# Altium footprint library BuckConverter.PcbLib: 28 footprints (part 2 of 2)
Each footprint in its own frame and in the unit in brackets; x right, y up, seen from the top. Pads: shape width x height; smd on the part's side, far side on the other; paste and mask are expansions set on the pad; w line width, h text height; cw(c..) or ccw(c..) is an arc to the next point about the centre after c.
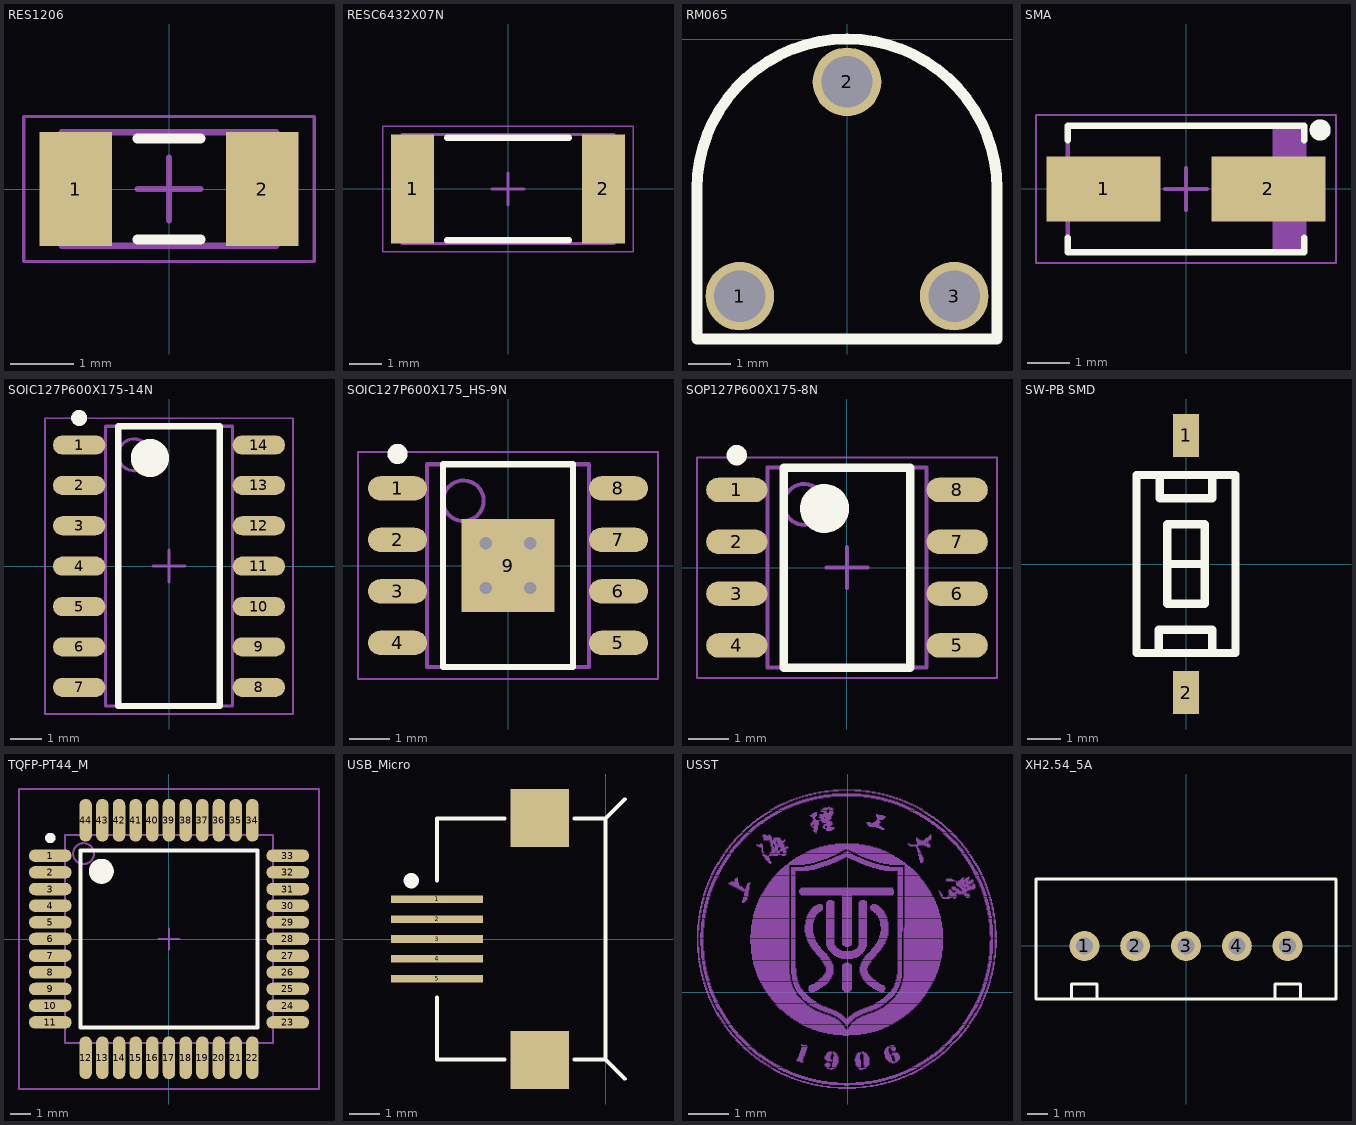
[diagram p1: the footprints below, top view; thin cyan lines are the x and y axes]

## RES1206 [mm]
pads (2):
  rect 1.15x1.8 smd: 1(-1.475,0) 2(1.475,0)
Top Overlay:
  lines w0.152: -0.5,-0.8 0.5,-0.8 ; -0.5,0.8 0.5,0.8
Mechanical 13:
  lines w0.1: -1.7,-0.9 1.7,-0.9 1.7,0.9 -1.7,0.9 -1.7,-0.9
Mechanical 15:
  lines w0.05: -2.3,-1.15 2.3,-1.15 2.3,1.15 -2.3,1.15 -2.3,-1.15
  lines w0.1: -0.5,0 0.5,0 ; 0,-0.5 0,0.5
3D body "RES1206.step": height 0.6, standoff 0, extent -1.6,-0.8 1.6,0.8

## RESC6432X07N [mm]
pads (2):
  rect 1.35x3.4 smd: 1(-2.975,0) 2(2.975,0)
Top Overlay:
  lines w0.2: -1.9,-1.6 1.9,-1.6 ; -1.9,1.6 1.9,1.6
Mechanical 13:
  lines w0.1: -3.3,-1.7 3.3,-1.7 3.3,1.7 -3.3,1.7 -3.3,-1.7
Mechanical 15:
  lines w0.05: -3.9,-1.95 3.9,-1.95 3.9,1.95 -3.9,1.95 -3.9,-1.95
  lines w0.1: -0.5,0 0.5,0 ; 0,-0.5 0,0.5
3D body "RESC6432X07N.step": height 0.7, standoff 0, extent -3.3,-1.7 3.3,1.7

## RM065 [mm]
pads (3):
  round 1.6 hole 1.2: 1(-2.5,-6) 2(0,-1) 3(2.5,-6)
Top Overlay:
  lines w0.254: -3.5,-7 3.25,-7 3.5,-7 3.5,-3.5 ccw(c0,-3.5) -3.5,-3.5 -3.5,-7
3D body "User Library-RM-065.STEP": height 7.7, standoff -3.1, extent -3.25,-7.143 3.25,0.1

## SMA [mm]
pads (2):
  rect 2.7x1.55 smd: 1(-1.95,0) 2(1.95,0)
Top Overlay:
  circle w0.25: c3.175,1.397 r0.125
  lines w0.152: -2.8,-1.151 -2.8,-1.5 2.8,-1.5 2.8,-1.151 ; -2.8,1.151 -2.8,1.5 2.8,1.5 2.8,1.151
Mechanical 13:
  rectangle: 2.047,-1.475 2.8,1.475
  lines w0.1: -2.8,-1.475 2.8,-1.475 2.8,1.475 -2.8,1.475 -2.8,-1.475
Mechanical 15:
  lines w0.05: -3.55,-1.75 3.55,-1.75 3.55,1.75 -3.55,1.75 -3.55,-1.75
  lines w0.1: -0.5,0 0.5,0 ; 0,-0.5 0,0.5
3D body "SMA.step": height 2, standoff -0.03, extent -2.6,-1.3 2.6,1.3

## SOIC127P600X175-14N [mm]
pads (14):
  oval 1.65x0.6 smd: 1(-2.825,3.81) 2(-2.825,2.54) 3(-2.825,1.27) 4(-2.825,0) 5(-2.825,-1.27) 6(-2.825,-2.54) 7(-2.825,-3.81) 8(2.825,-3.81) 9(2.825,-2.54) 10(2.825,-1.27) 11(2.825,0) 12(2.825,1.27) 13(2.825,2.54) 14(2.825,3.81)
Top Overlay:
  circle w0.6: c-0.6,3.4 r0.3
  circle w0.25: c-2.825,4.66 r0.125
  lines w0.2: -1.6,-4.4 1.6,-4.4 1.6,4.4 -1.6,4.4 -1.6,-4.4
Mechanical 13:
  circle w0.1: c-1.1,3.5 r0.5
  lines w0.1: -2,-4.4 2,-4.4 2,4.4 -2,4.4 -2,-4.4
Mechanical 15:
  lines w0.05: -3.9,-4.65 3.9,-4.65 3.9,4.65 -3.9,4.65 -3.9,-4.65
  lines w0.1: -0.5,0 0.5,0 ; 0,-0.5 0,0.5
3D body "SOIC127P600X175-14N.step": height 1.75, standoff 0, extent -3,-4.4 3,4.4

## SOIC127P600X175_HS-9N [mm]
pads (9):
  oval 1.45x0.6 smd: 1(-2.725,1.905) 2(-2.725,0.635) 3(-2.725,-0.635) 4(-2.725,-1.905) 5(2.725,-1.905) 6(2.725,-0.635) 7(2.725,0.635) 8(2.725,1.905)
  rect 2.3x2.3 smd: 9(0,0)
via -0.55,-0.55 diameter 0.5 hole 0.3
via 0.55,-0.55 diameter 0.5 hole 0.3
via -0.55,0.55 diameter 0.5 hole 0.3
via 0.55,0.55 diameter 0.5 hole 0.3
Top Overlay:
  circle w0.25: c-2.725,2.755 r0.125
  lines w0.152: -1.6,-2.5 1.6,-2.5 1.6,2.5 -1.6,2.5 -1.6,-2.5
Mechanical 13:
  circle w0.1: c-1.1,1.6 r0.5
  lines w0.1: -2,-2.5 2,-2.5 2,2.5 -2,2.5 -2,-2.5
Mechanical 15:
  lines w0.05: -3.7,-2.8 3.7,-2.8 3.7,2.8 -3.7,2.8 -3.7,-2.8
  lines w0.1: -0.5,0 0.5,0 ; 0,-0.5 0,0.5
3D body "SOIC127P600X175_HS-9N.step": height 1.75, standoff 0, extent -2.998,-2.5 2.998,2.5

## SOP127P600X175-8N [mm]
pads (8):
  oval 1.5x0.6 smd: 1(-2.7,1.905) 2(-2.7,0.635) 3(-2.7,-0.635) 4(-2.7,-1.905) 5(2.7,-1.905) 6(2.7,-0.635) 7(2.7,0.635) 8(2.7,1.905)
Top Overlay:
  circle w0.25: c-2.7,2.755 r0.125
  circle w0.6: c-0.55,1.45 r0.3
  lines w0.2: -1.55,-2.45 -1.55,2.45 1.55,2.45 1.55,-2.45 -1.55,-2.45
Mechanical 13:
  circle w0.1: c-1.05,1.55 r0.5
  lines w0.1: -1.95,-2.45 -1.95,2.45 1.95,2.45 1.95,-2.45 -1.95,-2.45
Mechanical 15:
  lines w0.05: -3.675,-2.7 -3.675,2.7 3.675,2.7 3.675,-2.7 -3.675,-2.7
  lines w0.1: -0.5,0 0.5,0 ; 0,-0.5 0,0.5
3D body "SOP127P600X175-8N.step": height 1.75, standoff 0, extent -3,-2.45 3,2.45

## SW-PB SMD [mm]
pads (2):
  rect 0.8x1.3 smd: 1(0,3.9) 2(0,-3.9)
Top Overlay:
  lines w0.254: -0.826,-2.7 -0.826,-2 ; -0.8,-2 0.8,-2 0.8,-2.7 ; -0.8,2.7 -0.8,2 0.8,2 0.8,2.7 ; -0.572,0 0.572,0 ; -1.5,-2.7 -1.5,2.7 1.5,2.7 1.5,-2.7 -1.5,-2.7 ; -0.572,-1.206 -0.572,1.206 0.572,1.206 0.572,-1.206 -0.572,-1.206
3D body "User Library-Tact switch 1181_2.step": height 2.5, standoff -0.1, extent -1.8,-4 1.8,4

## TQFP-PT44_M [mm]
pads (44):
  oval 2.05x0.6 smd: 1(-5.7,4) 2(-5.7,3.2) 3(-5.7,2.4) 4(-5.7,1.6) 5(-5.7,0.8) 6(-5.7,0) 7(-5.7,-0.8) 8(-5.7,-1.6) 9(-5.7,-2.4) 10(-5.7,-3.2) 11(-5.7,-4) 23(5.7,-4) 24(5.7,-3.2) 25(5.7,-2.4) 26(5.7,-1.6) 27(5.7,-0.8) 28(5.7,0) 29(5.7,0.8) 30(5.7,1.6) 31(5.7,2.4) 32(5.7,3.2) 33(5.7,4)
  oval 0.6x2.05 smd: 12(-4,-5.7) 13(-3.2,-5.7) 14(-2.4,-5.7) 15(-1.6,-5.7) 16(-0.8,-5.7) 17(0,-5.7) 18(0.8,-5.7) 19(1.6,-5.7) 20(2.4,-5.7) 21(3.2,-5.7) 22(4,-5.7) 34(4,5.7) 35(3.2,5.7) 36(2.4,5.7) 37(1.6,5.7) 38(0.8,5.7) 39(0,5.7) 40(-0.8,5.7) 41(-1.6,5.7) 42(-2.4,5.7) 43(-3.2,5.7) 44(-4,5.7)
Top Overlay:
  circle w0.6: c-3.25,3.25 r0.3
  circle w0.25: c-5.7,4.85 r0.125
  lines w0.2: -4.25,-4.25 4.25,-4.25 4.25,4.25 -4.25,4.25 -4.25,-4.25
Mechanical 13:
  circle w0.1: c-4.1,4.1 r0.5
  lines w0.1: -5,-5 5,-5 5,5 -5,5 -5,-5
Mechanical 15:
  lines w0.1: -0.5,0 0.5,0 ; 0,-0.5 0,0.5 ; -7.2,-7.2 7.2,-7.2 7.2,7.2 -7.2,7.2 -7.2,-7.2
3D body: height 1.2, standoff 0, extent -5,-5 5,5

## USB_Micro [mm]
pads (7):
  rect 3x0.25 smd: 1(-5.508,1.3) 2(-5.508,0.65) 3(-5.508,0) 4(-5.508,-0.65) 5(-5.508,-1.3)
  rect 1.9x1.9 smd: ""(-2.15,-3.95) ""(-2.15,3.95)
Top Overlay:
  circle w0.25: c-6.348,1.905 r0.125
  lines w0.127: -5.508,-3.937 -3.302,-3.937 ; -5.508,-3.9 -5.508,-1.905 ; -5.508,1.905 -5.508,3.9 ; -5.508,3.937 -3.302,3.937 ; -1.016,-3.937 0,-3.937 0.63,-4.567 ; -1.016,3.937 0,3.937 0.63,4.567 ; 0,-3.9 0,3.9
3D body "Micro USB.step": height 2.77, standoff -0.17, extent -5.444,-3.99 -0.014,3.99

## USST [mm]
Top Solder:
  drawing of 2602 lines, arcs and shapes, not listed

## XH2.54_5A [mm]
pads (5):
  round 1.5 hole 0.85: 1(-5.08,0) 2(-2.54,0) 3(0,0) 4(2.54,0) 5(5.08,0)
Top Overlay:
  lines w0.152: -5.715,-2.65 -5.715,-1.905 -4.445,-1.905 -4.445,-2.65 ; 4.445,-2.65 4.445,-1.905 5.715,-1.905 5.715,-2.65 ; -7.5,-2.65 -7.5,3.35 7.5,3.35 7.5,-2.65 -7.5,-2.65
3D body "User Library-JST B5B-XH-A.step": height 7, standoff -3.4, extent -7.45,-2.525 7.45,3.225